# Altium footprint library RESC157X85X50L30N.PcbLib: 1 footprints
Each footprint in its own frame and in the unit in brackets; x right, y up, seen from the top. Pads: shape width x height; smd on the part's side, far side on the other; paste and mask are expansions set on the pad; w line width, h text height; cw(c..) or ccw(c..) is an arc to the next point about the centre after c.
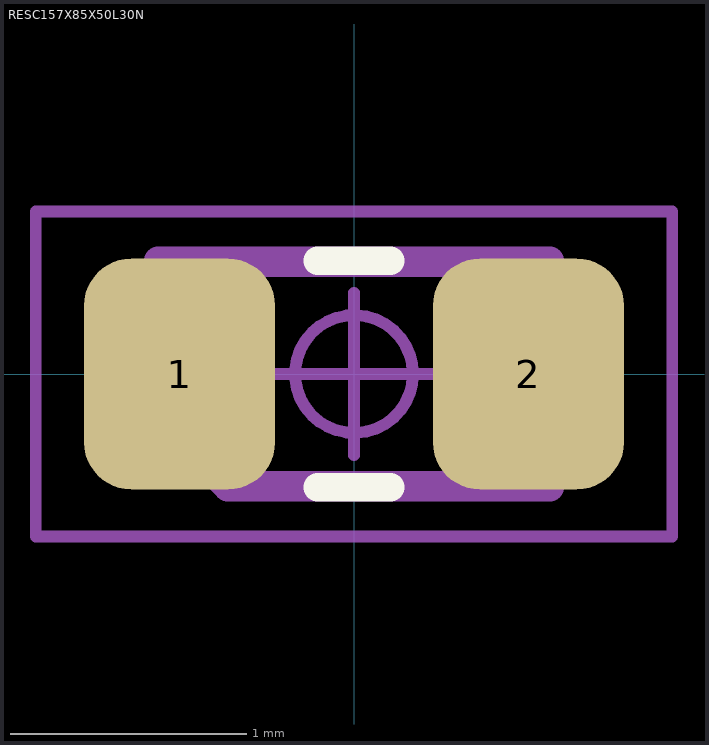
[diagram p0: the footprint, top view; thin cyan lines are the x and y axes]

## RESC157X85X50L30N [mm] "Resistor, Chip; 1.575 mm L X 0.85 mm W X 0.50 mm H body"
height 0.5
pads (2):
  rrect49% 0.81x0.98 smd: 1(-0.74,0) 2(0.74,0)
Top Overlay:
  lines w0.12: -0.155,-0.48 0.155,-0.48 ; -0.155,0.48 0.155,0.48
Mechanical 3:
  lines w0.12: -0.83,-0.186 -0.536,-0.48 0.83,-0.48 0.83,0.48 -0.83,0.48 -0.83,-0.186
Mechanical 5:
  lines w0.025: -0.787,-0.425 -0.487,-0.425 -0.487,0.425 -0.787,0.425 ; -0.787,-0.425 -0.787,0.425 ; -0.787,-0.425 -0.787,0.425 ; -0.787,-0.425 0.787,-0.425 ; -0.787,0.425 0.787,0.425 ; 0.787,-0.425 0.787,0.425 ; 0.787,-0.425 0.487,-0.425 0.487,0.425 0.787,0.425 ; 0.787,-0.425 0.787,0.425
Mechanical 7:
  circle w0.05: c0,0 r0.25
  lines w0.05: -0.345,0 0.345,0 ; 0,-0.345 0,0.345 ; -1.35,-0.69 -1.35,0.69 1.35,0.69 1.35,-0.69 -1.35,-0.69
Mechanical 9:
  text "'.Designator'" at -5.715,-0.381 h1
3D body "RESC157X85X50L30.STEP": height 0.5, standoff 0, extent -0.787,-0.425 0.787,0.425
3D body: height 1, standoff 0, extent -1.35,-0.69 1.35,0.69